# Altium footprint library PcbLib1.PcbLib: 1 footprints
Each footprint in its own frame and in the unit in brackets; x right, y up, seen from the top. Pads: shape width x height; smd on the part's side, far side on the other; paste and mask are expansions set on the pad; w line width, h text height; cw(c..) or ccw(c..) is an arc to the next point about the centre after c.
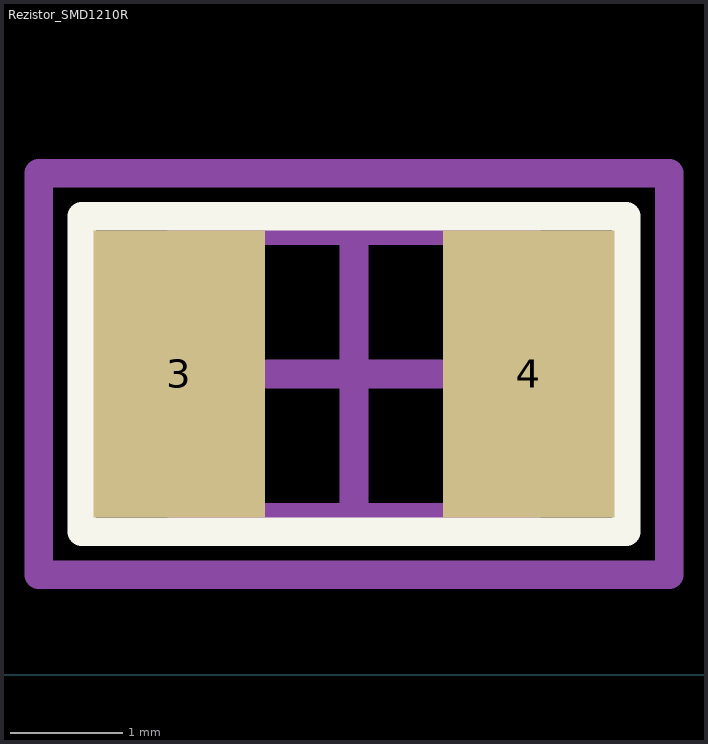
[diagram p0: the footprint, top view; thin cyan lines are the x and y axes]

## Rezistor_SMD1210R [mil]
pads (2):
  rect 59.84x100 smd: 3(-306.02,105) 4(-183.98,105)
Top Overlay:
  lines w10: -340,50 -340,160 -150,160 -150,50 -340,50
Top Assy:
  lines w10: -305,55 -305,155 -185,155 -185,55 -305,55
Border:
  lines w10: -275,105 -215,105 ; -245,90 -245,55 -245,155 -245,105 ; -355,35 -355,175 -135,175 -135,35 -355,35
3D body "SMD1210 _ SMD1210.stp": height 20.08, standoff 0, extent -306.02,53.82 -183.98,156.18